# EAGLE library part SY8205 (library _mtvl.power)
High Efficiency Fast Response， 5A, 30V Input Synchronous Step Down Regulator
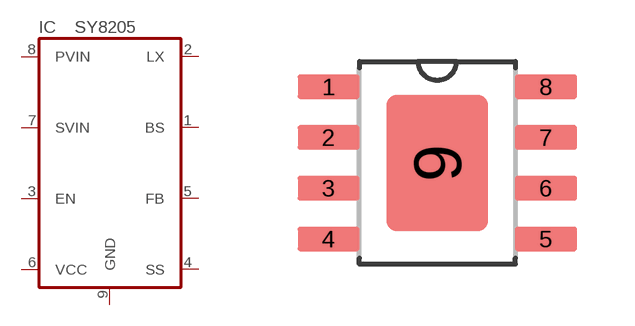
[diagram p24: symbol with the pads of SO8_EP; footprint SO8_EP]

Designator prefix IC

## SY8205FCC  [SO8_EP]
1  BS  pas
2  LX  out
3  EN  in
4  SS  pas
5  FB  in
6  VCC  pas
7  SVIN  in
8  PVIN  in
9  GND

## Footprint SO8_EP (pad centres in mm)
smd 1.549 x 0.61: 1 -2.718,1.905; 2 -2.718,0.635; 3 -2.718,-0.635; 4 -2.718,-1.905; 5 2.718,-1.905; 6 2.718,-0.635; 7 2.718,0.635; 8 2.718,1.905
smd 2.54 x 3.404: 9 0,0